# Altium integrated library TI Data Converters Analog to Digital Converter.IntLib: 2197 symbols (part 48 of 168)
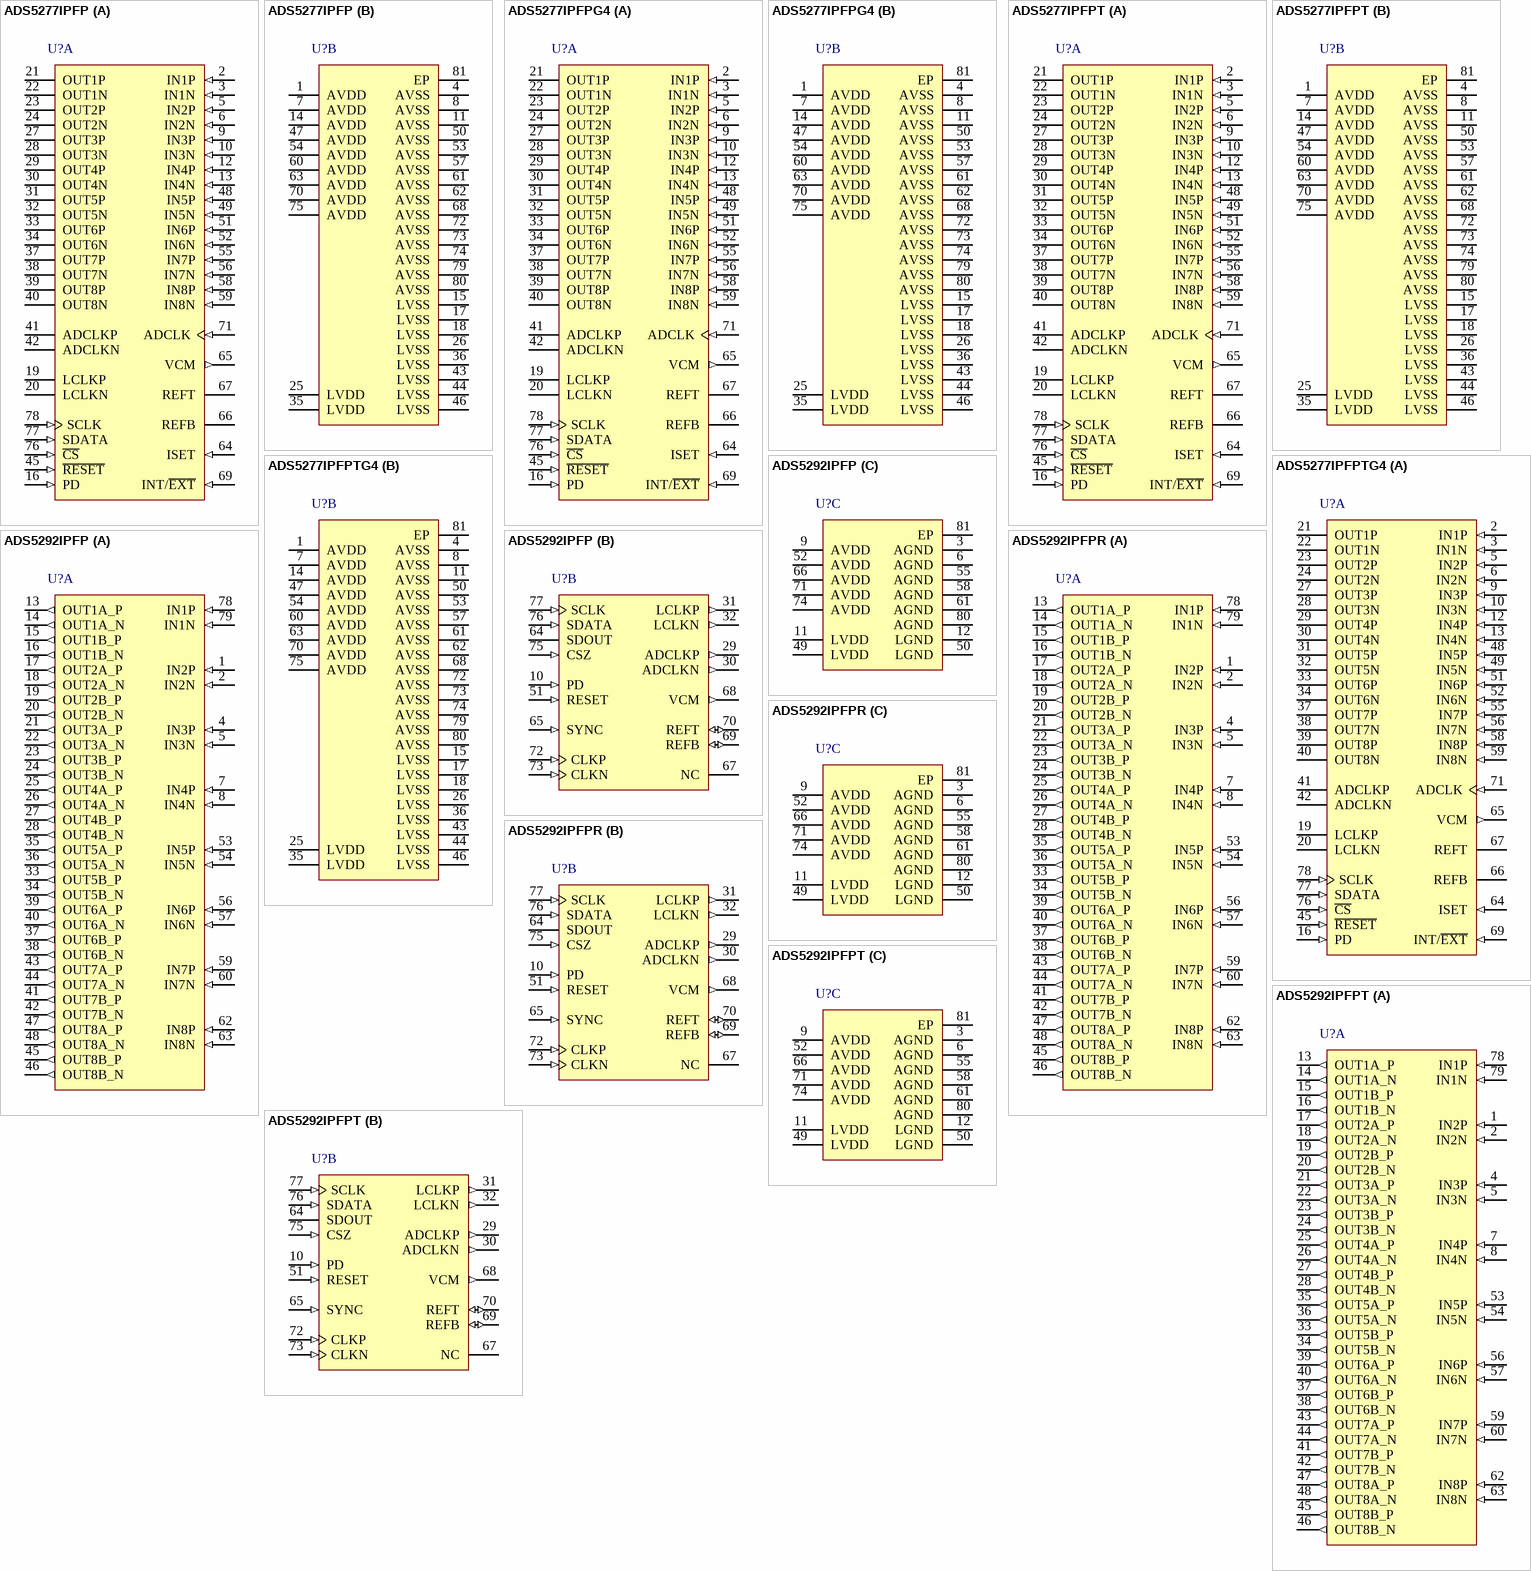
[diagram p173: symbols ADS5277IPFP to ADS5292IPFPT]

## ADS5292IPFPR
designator U?
Octal Channel 12-Bit, 80 MSPS High-SNR and Low-Power ADC, -40 to 85 degC, 80-pin QFP (PFP80), Green (RoHS & no Sb/Br); Manufacturer: Texas Instruments; PartNumber: ADS5292IPFPR; # Input Channels: 8; Analog Voltage AV/DD(Max)(V): 1.9; Analog Voltage AV/DD(Min)(V): 1.7; Architecture: Pipeline; ENOB(Bits): 11.3; INL(Max)(+/-LSB): 1; Interface: Parallel LVDS; Resolution(Bits): 12; Sample Rate (max)(SPS): 80M; SFDR(dB): 85; SINAD(dB): 69.8; SNR(dB): 71.5; SubFamily: High Speed ADC (>10MSPS); DatasheetVersion: SLAS788B; PackageVersion: 4146925/C, 07/2011; PackageReference: PFP80-6825X6825TP; PackageDescription: 80-Pin PowerPAD(TM) Plastic Quad Flatpack, Body 12 x 12 mm, Pitch 0.5 mm; Supplier 1: Mouser; Supplier Part Number 1: N/A; Digital Supply(Max)(V): 1.9; Digital Supply(Min)(V): 1.7; Eco-Plan: Green (RoHS & no Sb/Br); Mounting Technology: Surface Mount; Code_JEDEC: MS-026; ComponentLink1Description: Manufacturer URL; ComponentLink1URL: http://www.ti.com/; ComponentLink2Description: Datasheet; ComponentLink2URL: http://www.ti.com/general/docs/lit/getliterature.tsp?genericPartNumber=ADS5292&fileType=pdf; ComponentLink3Description: Package Specification; ComponentLink3URL: http://www.ti.com/litv/pdf/mpqf049b
footprint TI-PFP80-6825X6825TP_N (QFP, 80-Leads, Body 12x12mm, Pitch 0.5mm, Thermal Pad 7.5x7.5mm, IPC Medium Density)
footprint TI-PFP80-6825X6825TP_L (QFP, 80-Leads, Body 12x12mm, Pitch 0.5mm, Thermal Pad 7.5x7.5mm, IPC High Density)
footprint TI-PFP80-6825X6825TP_M (QFP, 80-Leads, Body 12x12mm, Pitch 0.5mm, Thermal Pad 7.5x7.5mm, IPC Low Density)
part A pins: 1 IN2P (in) "Differential input signal, Channel 2", 2 IN2N (in) "Differential input signal, Channel 2", 4 IN3P (in) "Differential input signal, Channel 3", 5 IN3N (in) "Differential input signal, Channel 3", 7 IN4P (in) "Differential input signal, Channel 4", 8 IN4N (in) "Differential input signal, Channel 4", 13 OUT1A_P (out) "Differential LVDS data output, wire 1, channel 1", 14 OUT1A_N (out) "Differential LVDS data output, wire 1, channel 1", 15 OUT1B_P (out) "Differential LVDS data output, wire 2, channel 1", 16 OUT1B_N (out) "Differential LVDS data output, wire 2, channel 1", 17 OUT2A_P (out) "Differential LVDS data output, wire 1, channel 2", 18 OUT2A_N (out) "Differential LVDS data output, wire 1, channel 2", 19 OUT2B_P (out) "Differential LVDS data output, wire 2, channel 2", 20 OUT2B_N (out) "Differential LVDS data output, wire 2, channel 2", 21 OUT3A_P (out) "Differential LVDS data output, wire 1, channel 3", 22 OUT3A_N (out) "Differential LVDS data output, wire 1, channel 3", 23 OUT3B_P (out) "Differential LVDS data output, wire 2, channel 3", 24 OUT3B_N (out) "Differential LVDS data output, wire 2, channel 3", 25 OUT4A_P (out) "Differential LVDS data output, wire 1, channel 4", 26 OUT4A_N (out) "Differential LVDS data output, wire 1, channel 4", 27 OUT4B_P (out) "Differential LVDS data output, wire 2, channel 4", 28 OUT4B_N (out) "Differential LVDS data output, wire 2, channel 4", 33 OUT5B_P (out) "Differential LVDS data output, wire 2, channel 5", 34 OUT5B_N (out) "Differential LVDS data output, wire 2, channel 5", 35 OUT5A_P (out) "Differential LVDS data output, wire 1, channel 5", 36 OUT5A_N (out) "Differential LVDS data output, wire 1, channel 5", 37 OUT6B_P (out) "Differential LVDS data output, wire 2, channel 6", 38 OUT6B_N (out) "Differential LVDS data output, wire 2, channel 6", 39 OUT6A_P (out) "Differential LVDS data output, wire 1, channel 6", 40 OUT6A_N (out) "Differential LVDS data output, wire 1, channel 6", 41 OUT7B_P (out) "Differential LVDS data output, wire 2, channel 7", 42 OUT7B_N (out) "Differential LVDS data output, wire 2, channel 7", 43 OUT7A_P (out) "Differential LVDS data output, wire 1, channel 7", 44 OUT7A_N (out) "Differential LVDS data output, wire 1, channel 7", 45 OUT8B_P (out) "Differential LVDS data output, wire 2, channel 8", 46 OUT8B_N (out) "Differential LVDS data output, wire 2, channel 8", 47 OUT8A_P (out) "Differential LVDS data output, wire 1, channel 8", 48 OUT8A_N (out) "Differential LVDS data output, wire 1, channel 8", 53 IN5P (in) "Differential input signal, Channel 5", 54 IN5N (in) "Differential input signal, Channel 5", 56 IN6P (in) "Differential input signal, Channel 6", 57 IN6N (in) "Differential input signal, Channel 6", 59 IN7P (in) "Differential input signal, Channel 7", 60 IN7N (in) "Differential input signal, Channel 7", 62 IN8P (in) "Differential input signal, Channel 8", 63 IN8N (in) "Differential input signal, Channel 8", 78 IN1P (in) "Differential input signal, Channel 1", 79 IN1N (in) "Differential input signal, Channel 1"
part B pins: 10 PD (in) "Power down control input. Active High. The pin has an internal 220-kO pulldown resistor.", 29 ADCLKP (out) "Differential LVDS frame clock (1X)", 30 ADCLKN (out) "Differential LVDS frame clock (1X)", 31 LCLKP (out) "Differential LVDS bit clock (7X)", 32 LCLKN (out) "Differential LVDS bit clock (7X)", 51 RESET (in) "Active HIGH RESET input. The pin has an internal 220-kO pulldown resistor.", 64 SDOUT (hiz) "Serial data readout. This pin is in the high-impedance state after reset. When the <READOUT> bit is set, the SDOUT pin becomes active. This is a CMOS digital output running from the AVDD supply.", 65 SYNC (in) "Input signal to synchronize channels and chips when used with reduced output data rates. If it is not used, add a =< 10 Kohm pull-down resistor.", 67 NC "No Connection. Must leave floated", 68 VCM (out) "Common-mode output pin, 0.95-V output", 69 REFB (io) "Negative reference input/ output", 70 REFT (io) "Positive reference input/ output", 72 CLKP (in) "Positive differential clock", 73 CLKN (in) "Negative differential clock -Tie CLKN to GND for single-ended clock", 75 CSZ (in) "Serial enable chip select - active low digital input", 76 SDATA (in) "Serial data input. The pin has an internal 220-kO pulldown resistor.", 77 SCLK (in) "Serial clock input. The pin has an internal 220-kohm pulldown resistor."
part C pins: 3 AGND (power) "Analog ground", 6 AGND (power) "Analog ground", 9 AVDD (power) "Analog supply pin, 1.8 V", 11 LVDD (power) "Digital and I/O power supply, 1.8 V", 12 LGND (power) "Digital ground", 49 LVDD (power) "Digital and I/O power supply, 1.8 V", 50 LGND (power) "Digital ground", 52 AVDD (power) "Analog supply pin, 1.8 V", 55 AGND (power) "Analog ground", 58 AGND (power) "Analog ground", 61 AGND (power) "Analog ground", 66 AVDD (power) "Analog supply pin, 1.8 V", 71 AVDD (power) "Analog supply pin, 1.8 V", 74 AVDD (power) "Analog supply pin, 1.8 V", 80 AGND (power) "Analog ground", 81 EP (power)

## ADS5292IPFPT
designator U?
Octal Channel 12-Bit, 80 MSPS High-SNR and Low-Power ADC, -40 to 85 degC, 80-pin QFP (PFP80), Green (RoHS & no Sb/Br); Manufacturer: Texas Instruments; PartNumber: ADS5292IPFPT; # Input Channels: 8; Analog Voltage AV/DD(Max)(V): 1.9; Analog Voltage AV/DD(Min)(V): 1.7; Architecture: Pipeline; ENOB(Bits): 11.3; INL(Max)(+/-LSB): 1; Interface: Parallel LVDS; Resolution(Bits): 12; Sample Rate (max)(SPS): 80M; SFDR(dB): 85; SINAD(dB): 69.8; SNR(dB): 71.5; SubFamily: High Speed ADC (>10MSPS); DatasheetVersion: SLAS788B; PackageVersion: 4146925/C, 07/2011; PackageReference: PFP80-6825X6825TP; PackageDescription: 80-Pin PowerPAD(TM) Plastic Quad Flatpack, Body 12 x 12 mm, Pitch 0.5 mm; Supplier 1: Mouser; Supplier Part Number 1: N/A; Digital Supply(Max)(V): 1.9; Digital Supply(Min)(V): 1.7; Eco-Plan: Green (RoHS & no Sb/Br); Mounting Technology: Surface Mount; Code_JEDEC: MS-026; ComponentLink1Description: Manufacturer URL; ComponentLink1URL: http://www.ti.com/; ComponentLink2Description: Datasheet; ComponentLink2URL: http://www.ti.com/general/docs/lit/getliterature.tsp?genericPartNumber=ADS5292&fileType=pdf; ComponentLink3Description: Package Specification; ComponentLink3URL: http://www.ti.com/litv/pdf/mpqf049b
footprint TI-PFP80-6825X6825TP_N (QFP, 80-Leads, Body 12x12mm, Pitch 0.5mm, Thermal Pad 7.5x7.5mm, IPC Medium Density)
footprint TI-PFP80-6825X6825TP_L (QFP, 80-Leads, Body 12x12mm, Pitch 0.5mm, Thermal Pad 7.5x7.5mm, IPC High Density)
footprint TI-PFP80-6825X6825TP_M (QFP, 80-Leads, Body 12x12mm, Pitch 0.5mm, Thermal Pad 7.5x7.5mm, IPC Low Density)
part A pins: 1 IN2P (in) "Differential input signal, Channel 2", 2 IN2N (in) "Differential input signal, Channel 2", 4 IN3P (in) "Differential input signal, Channel 3", 5 IN3N (in) "Differential input signal, Channel 3", 7 IN4P (in) "Differential input signal, Channel 4", 8 IN4N (in) "Differential input signal, Channel 4", 13 OUT1A_P (out) "Differential LVDS data output, wire 1, channel 1", 14 OUT1A_N (out) "Differential LVDS data output, wire 1, channel 1", 15 OUT1B_P (out) "Differential LVDS data output, wire 2, channel 1", 16 OUT1B_N (out) "Differential LVDS data output, wire 2, channel 1", 17 OUT2A_P (out) "Differential LVDS data output, wire 1, channel 2", 18 OUT2A_N (out) "Differential LVDS data output, wire 1, channel 2", 19 OUT2B_P (out) "Differential LVDS data output, wire 2, channel 2", 20 OUT2B_N (out) "Differential LVDS data output, wire 2, channel 2", 21 OUT3A_P (out) "Differential LVDS data output, wire 1, channel 3", 22 OUT3A_N (out) "Differential LVDS data output, wire 1, channel 3", 23 OUT3B_P (out) "Differential LVDS data output, wire 2, channel 3", 24 OUT3B_N (out) "Differential LVDS data output, wire 2, channel 3", 25 OUT4A_P (out) "Differential LVDS data output, wire 1, channel 4", 26 OUT4A_N (out) "Differential LVDS data output, wire 1, channel 4", 27 OUT4B_P (out) "Differential LVDS data output, wire 2, channel 4", 28 OUT4B_N (out) "Differential LVDS data output, wire 2, channel 4", 33 OUT5B_P (out) "Differential LVDS data output, wire 2, channel 5", 34 OUT5B_N (out) "Differential LVDS data output, wire 2, channel 5", 35 OUT5A_P (out) "Differential LVDS data output, wire 1, channel 5", 36 OUT5A_N (out) "Differential LVDS data output, wire 1, channel 5", 37 OUT6B_P (out) "Differential LVDS data output, wire 2, channel 6", 38 OUT6B_N (out) "Differential LVDS data output, wire 2, channel 6", 39 OUT6A_P (out) "Differential LVDS data output, wire 1, channel 6", 40 OUT6A_N (out) "Differential LVDS data output, wire 1, channel 6", 41 OUT7B_P (out) "Differential LVDS data output, wire 2, channel 7", 42 OUT7B_N (out) "Differential LVDS data output, wire 2, channel 7", 43 OUT7A_P (out) "Differential LVDS data output, wire 1, channel 7", 44 OUT7A_N (out) "Differential LVDS data output, wire 1, channel 7", 45 OUT8B_P (out) "Differential LVDS data output, wire 2, channel 8", 46 OUT8B_N (out) "Differential LVDS data output, wire 2, channel 8", 47 OUT8A_P (out) "Differential LVDS data output, wire 1, channel 8", 48 OUT8A_N (out) "Differential LVDS data output, wire 1, channel 8", 53 IN5P (in) "Differential input signal, Channel 5", 54 IN5N (in) "Differential input signal, Channel 5", 56 IN6P (in) "Differential input signal, Channel 6", 57 IN6N (in) "Differential input signal, Channel 6", 59 IN7P (in) "Differential input signal, Channel 7", 60 IN7N (in) "Differential input signal, Channel 7", 62 IN8P (in) "Differential input signal, Channel 8", 63 IN8N (in) "Differential input signal, Channel 8", 78 IN1P (in) "Differential input signal, Channel 1", 79 IN1N (in) "Differential input signal, Channel 1"
part B pins: 10 PD (in) "Power down control input. Active High. The pin has an internal 220-kO pulldown resistor.", 29 ADCLKP (out) "Differential LVDS frame clock (1X)", 30 ADCLKN (out) "Differential LVDS frame clock (1X)", 31 LCLKP (out) "Differential LVDS bit clock (7X)", 32 LCLKN (out) "Differential LVDS bit clock (7X)", 51 RESET (in) "Active HIGH RESET input. The pin has an internal 220-kO pulldown resistor.", 64 SDOUT (hiz) "Serial data readout. This pin is in the high-impedance state after reset. When the <READOUT> bit is set, the SDOUT pin becomes active. This is a CMOS digital output running from the AVDD supply.", 65 SYNC (in) "Input signal to synchronize channels and chips when used with reduced output data rates. If it is not used, add a =< 10 Kohm pull-down resistor.", 67 NC "No Connection. Must leave floated", 68 VCM (out) "Common-mode output pin, 0.95-V output", 69 REFB (io) "Negative reference input/ output", 70 REFT (io) "Positive reference input/ output", 72 CLKP (in) "Positive differential clock", 73 CLKN (in) "Negative differential clock -Tie CLKN to GND for single-ended clock", 75 CSZ (in) "Serial enable chip select - active low digital input", 76 SDATA (in) "Serial data input. The pin has an internal 220-kO pulldown resistor.", 77 SCLK (in) "Serial clock input. The pin has an internal 220-kohm pulldown resistor."
part C pins: 3 AGND (power) "Analog ground", 6 AGND (power) "Analog ground", 9 AVDD (power) "Analog supply pin, 1.8 V", 11 LVDD (power) "Digital and I/O power supply, 1.8 V", 12 LGND (power) "Digital ground", 49 LVDD (power) "Digital and I/O power supply, 1.8 V", 50 LGND (power) "Digital ground", 52 AVDD (power) "Analog supply pin, 1.8 V", 55 AGND (power) "Analog ground", 58 AGND (power) "Analog ground", 61 AGND (power) "Analog ground", 66 AVDD (power) "Analog supply pin, 1.8 V", 71 AVDD (power) "Analog supply pin, 1.8 V", 74 AVDD (power) "Analog supply pin, 1.8 V", 80 AGND (power) "Analog ground", 81 EP (power)

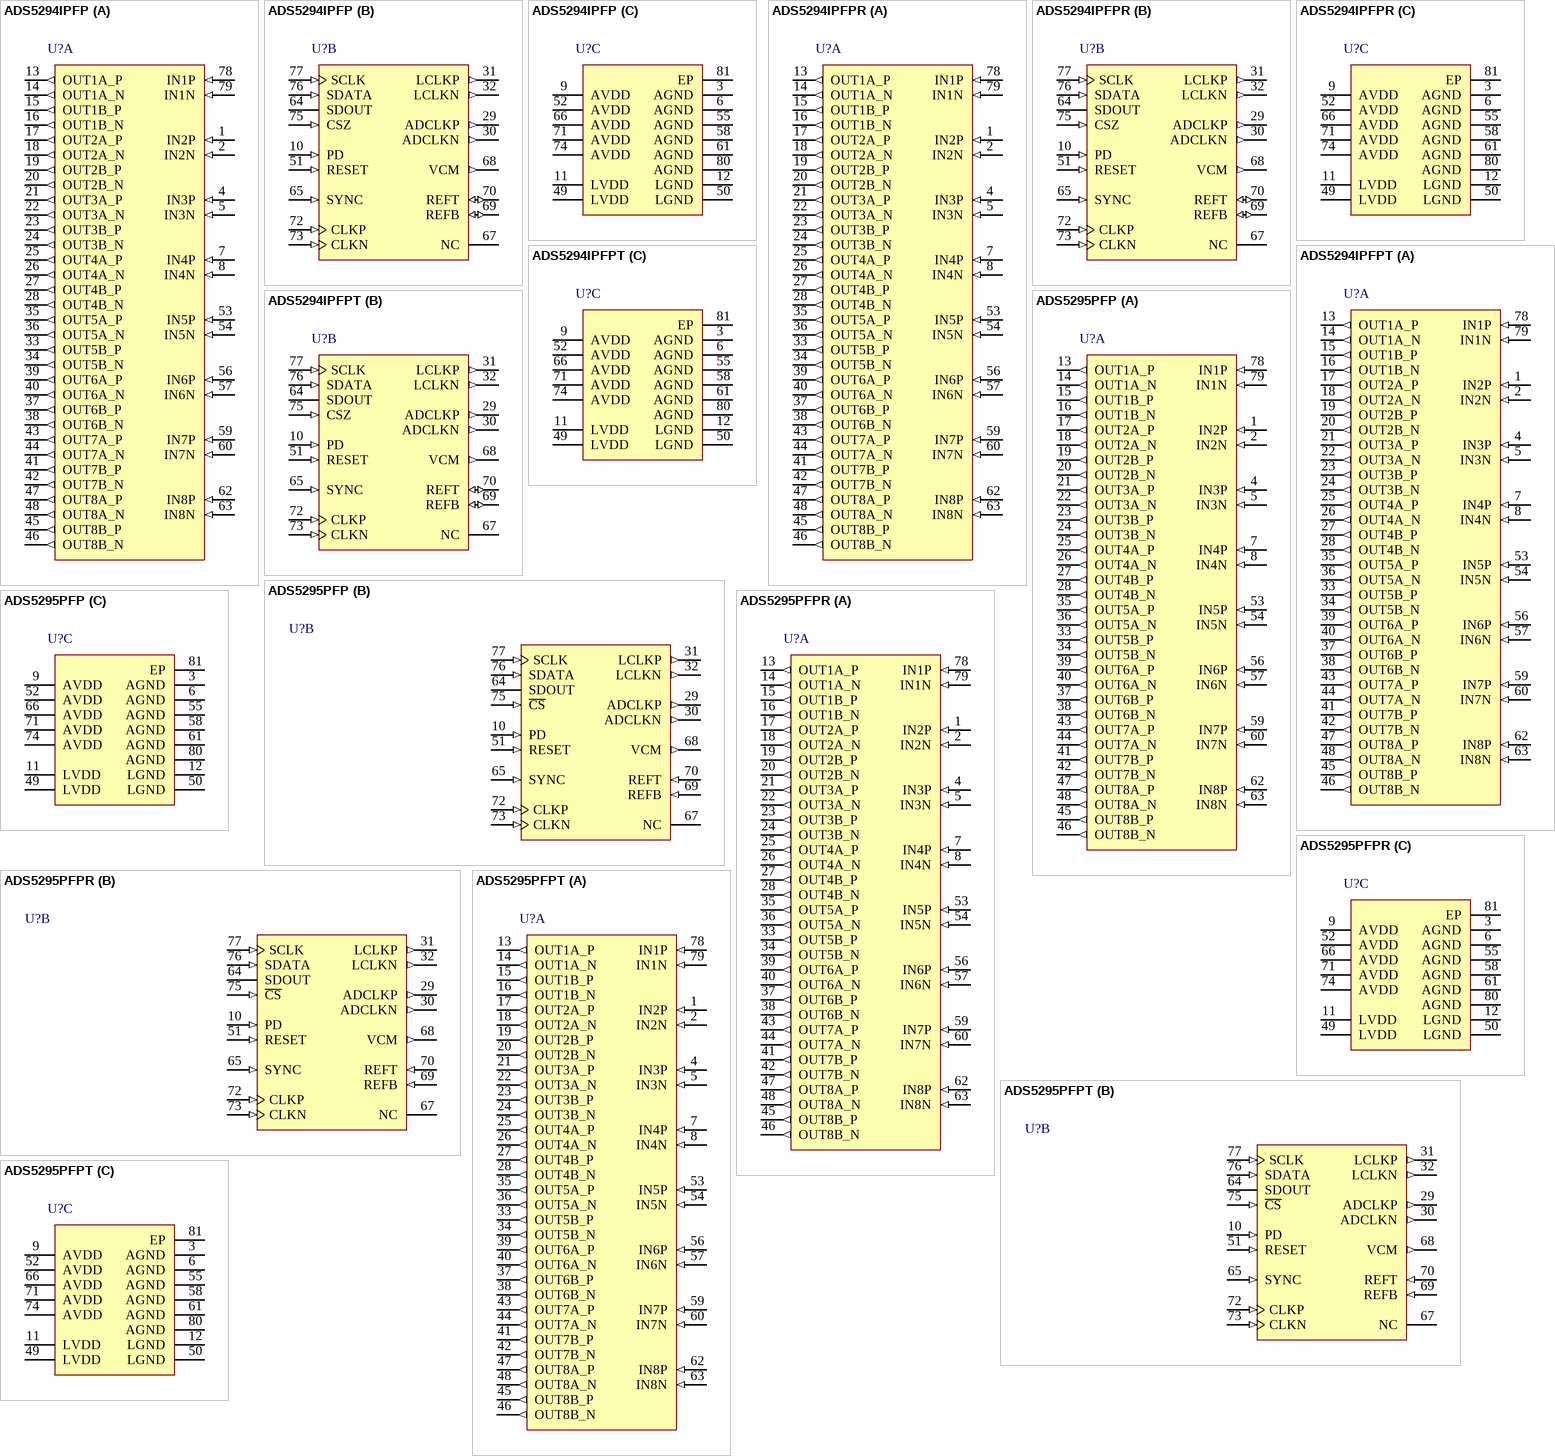
[diagram p44: symbols ADS5294IPFP to ADS5295PFPT]

## ADS5294IPFP
designator U?
Octal Channel 12-Bit, 80 MSPS High-SNR and Low-Power ADC, -40 to 85 degC, 80-pin QFP (PFP80), Green (RoHS & no Sb/Br); Manufacturer: Texas Instruments; PartNumber: ADS5294IPFP; # Input Channels: 8; Analog Voltage AV/DD(Max)(V): 1.9; Analog Voltage AV/DD(Min)(V): 1.7; Architecture: Pipeline; ENOB(Bits): 12.2; INL(Max)(+/-LSB): 5.5; Interface: Parallel LVDS; Resolution(Bits): 14; Sample Rate (max)(SPS): 80M; SFDR(dB): 84; SINAD(dB): 74.8; SNR(dB): 75.5; SubFamily: High Speed ADC (>10MSPS); DatasheetVersion: SLAS776B; PackageVersion: 4146925/C, 07/2011; PackageReference: PFP80-6825X6825TP; PackageDescription: 80-Pin PowerPAD(TM) Plastic Quad Flatpack, Body 12 x 12 mm, Pitch 0.5 mm; Digital Supply(Max)(V): 1.9; Digital Supply(Min)(V): 1.7; Eco-Plan: Green (RoHS & no Sb/Br); Mounting Technology: Surface Mount; Code_JEDEC: MS-026; ComponentLink1Description: Manufacturer URL; ComponentLink1URL: http://www.ti.com/; ComponentLink2Description: Datasheet; ComponentLink2URL: http://www.ti.com/general/docs/lit/getliterature.tsp?genericPartNumber=ADS5294&fileType=pdf; ComponentLink3Description: Package Specification; ComponentLink3URL: http://www.ti.com/litv/pdf/mpqf049b
footprint TI-PFP80-6825X6825TP_N (QFP, 80-Leads, Body 12x12mm, Pitch 0.5mm, Thermal Pad 7.5x7.5mm, IPC Medium Density)
footprint TI-PFP80-6825X6825TP_L (QFP, 80-Leads, Body 12x12mm, Pitch 0.5mm, Thermal Pad 7.5x7.5mm, IPC High Density)
footprint TI-PFP80-6825X6825TP_M (QFP, 80-Leads, Body 12x12mm, Pitch 0.5mm, Thermal Pad 7.5x7.5mm, IPC Low Density)
part A pins: 1 IN2P (in) "Differential input signal, Channel 2", 2 IN2N (in) "Differential input signal, Channel 2", 4 IN3P (in) "Differential input signal, Channel 3", 5 IN3N (in) "Differential input signal, Channel 3", 7 IN4P (in) "Differential input signal, Channel 4", 8 IN4N (in) "Differential input signal, Channel 4", 13 OUT1A_P (out) "Differential LVDS data output, wire 1, channel 1", 14 OUT1A_N (out) "Differential LVDS data output, wire 1, channel 1", 15 OUT1B_P (out) "Differential LVDS data output, wire 2, channel 1", 16 OUT1B_N (out) "Differential LVDS data output, wire 2, channel 1", 17 OUT2A_P (out) "Differential LVDS data output, wire 1, channel 2", 18 OUT2A_N (out) "Differential LVDS data output, wire 1, channel 2", 19 OUT2B_P (out) "Differential LVDS data output, wire 2, channel 2", 20 OUT2B_N (out) "Differential LVDS data output, wire 2, channel 2", 21 OUT3A_P (out) "Differential LVDS data output, wire 1, channel 3", 22 OUT3A_N (out) "Differential LVDS data output, wire 1, channel 3", 23 OUT3B_P (out) "Differential LVDS data output, wire 2, channel 3", 24 OUT3B_N (out) "Differential LVDS data output, wire 2, channel 3", 25 OUT4A_P (out) "Differential LVDS data output, wire 1, channel 4", 26 OUT4A_N (out) "Differential LVDS data output, wire 1, channel 4", 27 OUT4B_P (out) "Differential LVDS data output, wire 2, channel 4", 28 OUT4B_N (out) "Differential LVDS data output, wire 2, channel 4", 33 OUT5B_P (out) "Differential LVDS data output, wire 2, channel 5", 34 OUT5B_N (out) "Differential LVDS data output, wire 2, channel 5", 35 OUT5A_P (out) "Differential LVDS data output, wire 1, channel 5", 36 OUT5A_N (out) "Differential LVDS data output, wire 1, channel 5", 37 OUT6B_P (out) "Differential LVDS data output, wire 2, channel 6", 38 OUT6B_N (out) "Differential LVDS data output, wire 2, channel 6", 39 OUT6A_P (out) "Differential LVDS data output, wire 1, channel 6", 40 OUT6A_N (out) "Differential LVDS data output, wire 1, channel 6", 41 OUT7B_P (out) "Differential LVDS data output, wire 2, channel 7", 42 OUT7B_N (out) "Differential LVDS data output, wire 2, channel 7", 43 OUT7A_P (out) "Differential LVDS data output, wire 1, channel 7", 44 OUT7A_N (out) "Differential LVDS data output, wire 1, channel 7", 45 OUT8B_P (out) "Differential LVDS data output, wire 2, channel 8", 46 OUT8B_N (out) "Differential LVDS data output, wire 2, channel 8", 47 OUT8A_P (out) "Differential LVDS data output, wire 1, channel 8", 48 OUT8A_N (out) "Differential LVDS data output, wire 1, channel 8", 53 IN5P (in) "Differential input signal, Channel 5", 54 IN5N (in) "Differential input signal, Channel 5", 56 IN6P (in) "Differential input signal, Channel 6", 57 IN6N (in) "Differential input signal, Channel 6", 59 IN7P (in) "Differential input signal, Channel 7", 60 IN7N (in) "Differential input signal, Channel 7", 62 IN8P (in) "Differential input signal, Channel 8", 63 IN8N (in) "Differential input signal, Channel 8", 78 IN1P (in) "Differential input signal, Channel 1", 79 IN1N (in) "Differential input signal, Channel 1"
part B pins: 10 PD (in) "Power down control input. Active High. The pin has an internal 220-kO pulldown resistor.", 29 ADCLKP (out) "Differential LVDS frame clock (1X)", 30 ADCLKN (out) "Differential LVDS frame clock (1X)", 31 LCLKP (out) "Differential LVDS bit clock (7X)", 32 LCLKN (out) "Differential LVDS bit clock (7X)", 51 RESET (in) "Active HIGH RESET input. The pin has an internal 220-kO pulldown resistor.", 64 SDOUT (hiz) "Serial data readout. This pin is in the high-impedance state after reset. When the <READOUT> bit is set, the SDOUT pin becomes active. This is a CMOS digital output running from the AVDD supply.", 65 SYNC (in) "Input signal to synchronize channels and chips when used with reduced output data rates. If it is not used, add a =< 10 Kohm pull-down resistor.", 67 NC "No Connection. Must leave floated", 68 VCM (out) "Common-mode output pin, 0.95-V output", 69 REFB (io) "Negative reference input/ output", 70 REFT (io) "Positive reference input/ output", 72 CLKP (in) "Positive differential clock", 73 CLKN (in) "Negative differential clock -Tie CLKN to GND for single-ended clock", 75 CSZ (in) "Serial enable chip select - active low digital input", 76 SDATA (in) "Serial data input. The pin has an internal 220-kO pulldown resistor.", 77 SCLK (in) "Serial clock input. The pin has an internal 220-kohm pulldown resistor."
part C pins: 3 AGND (power) "Analog ground", 6 AGND (power) "Analog ground", 9 AVDD (power) "Analog supply pin, 1.8 V", 11 LVDD (power) "Digital and I/O power supply, 1.8 V", 12 LGND (power) "Digital ground", 49 LVDD (power) "Digital and I/O power supply, 1.8 V", 50 LGND (power) "Digital ground", 52 AVDD (power) "Analog supply pin, 1.8 V", 55 AGND (power) "Analog ground", 58 AGND (power) "Analog ground", 61 AGND (power) "Analog ground", 66 AVDD (power) "Analog supply pin, 1.8 V", 71 AVDD (power) "Analog supply pin, 1.8 V", 74 AVDD (power) "Analog supply pin, 1.8 V", 80 AGND (power) "Analog ground", 81 EP (power)

## ADS5294IPFPR
designator U?
Octal Channel 12-Bit, 80 MSPS High-SNR and Low-Power ADC, -40 to 85 degC, 80-pin QFP (PFP80), Green (RoHS & no Sb/Br); Manufacturer: Texas Instruments; PartNumber: ADS5294IPFPR; # Input Channels: 8; Analog Voltage AV/DD(Max)(V): 1.9; Analog Voltage AV/DD(Min)(V): 1.7; Architecture: Pipeline; ENOB(Bits): 12.2; INL(Max)(+/-LSB): 5.5; Interface: Parallel LVDS; Resolution(Bits): 14; Sample Rate (max)(SPS): 80M; SFDR(dB): 84; SINAD(dB): 74.8; SNR(dB): 75.5; SubFamily: High Speed ADC (>10MSPS); DatasheetVersion: SLAS776B; PackageVersion: 4146925/C, 07/2011; PackageReference: PFP80-6825X6825TP; PackageDescription: 80-Pin PowerPAD(TM) Plastic Quad Flatpack, Body 12 x 12 mm, Pitch 0.5 mm; Supplier 1: Digi-Key; Supplier Part Number 1: 296-2172-5-ND; Supplier 2: Farnell; Supplier Part Number 2: 1459312; Supplier 3: Mouser; Supplier Part Number 3: 595-THS10064CDA; Digital Supply(Max)(V): 1.9; Digital Supply(Min)(V): 1.7; Eco-Plan: Green (RoHS & no Sb/Br); Mounting Technology: Surface Mount; Code_JEDEC: MS-026; ComponentLink1Description: Manufacturer URL; ComponentLink1URL: http://www.ti.com/; ComponentLink2Description: Datasheet; ComponentLink2URL: http://www.ti.com/general/docs/lit/getliterature.tsp?genericPartNumber=ADS5294&fileType=pdf; ComponentLink3Description: Package Specification; ComponentLink3URL: http://www.ti.com/litv/pdf/mpqf049b
footprint TI-PFP80-6825X6825TP_N (QFP, 80-Leads, Body 12x12mm, Pitch 0.5mm, Thermal Pad 7.5x7.5mm, IPC Medium Density)
footprint TI-PFP80-6825X6825TP_L (QFP, 80-Leads, Body 12x12mm, Pitch 0.5mm, Thermal Pad 7.5x7.5mm, IPC High Density)
footprint TI-PFP80-6825X6825TP_M (QFP, 80-Leads, Body 12x12mm, Pitch 0.5mm, Thermal Pad 7.5x7.5mm, IPC Low Density)
part A pins: 1 IN2P (in) "Differential input signal, Channel 2", 2 IN2N (in) "Differential input signal, Channel 2", 4 IN3P (in) "Differential input signal, Channel 3", 5 IN3N (in) "Differential input signal, Channel 3", 7 IN4P (in) "Differential input signal, Channel 4", 8 IN4N (in) "Differential input signal, Channel 4", 13 OUT1A_P (out) "Differential LVDS data output, wire 1, channel 1", 14 OUT1A_N (out) "Differential LVDS data output, wire 1, channel 1", 15 OUT1B_P (out) "Differential LVDS data output, wire 2, channel 1", 16 OUT1B_N (out) "Differential LVDS data output, wire 2, channel 1", 17 OUT2A_P (out) "Differential LVDS data output, wire 1, channel 2", 18 OUT2A_N (out) "Differential LVDS data output, wire 1, channel 2", 19 OUT2B_P (out) "Differential LVDS data output, wire 2, channel 2", 20 OUT2B_N (out) "Differential LVDS data output, wire 2, channel 2", 21 OUT3A_P (out) "Differential LVDS data output, wire 1, channel 3", 22 OUT3A_N (out) "Differential LVDS data output, wire 1, channel 3", 23 OUT3B_P (out) "Differential LVDS data output, wire 2, channel 3", 24 OUT3B_N (out) "Differential LVDS data output, wire 2, channel 3", 25 OUT4A_P (out) "Differential LVDS data output, wire 1, channel 4", 26 OUT4A_N (out) "Differential LVDS data output, wire 1, channel 4", 27 OUT4B_P (out) "Differential LVDS data output, wire 2, channel 4", 28 OUT4B_N (out) "Differential LVDS data output, wire 2, channel 4", 33 OUT5B_P (out) "Differential LVDS data output, wire 2, channel 5", 34 OUT5B_N (out) "Differential LVDS data output, wire 2, channel 5", 35 OUT5A_P (out) "Differential LVDS data output, wire 1, channel 5", 36 OUT5A_N (out) "Differential LVDS data output, wire 1, channel 5", 37 OUT6B_P (out) "Differential LVDS data output, wire 2, channel 6", 38 OUT6B_N (out) "Differential LVDS data output, wire 2, channel 6", 39 OUT6A_P (out) "Differential LVDS data output, wire 1, channel 6", 40 OUT6A_N (out) "Differential LVDS data output, wire 1, channel 6", 41 OUT7B_P (out) "Differential LVDS data output, wire 2, channel 7", 42 OUT7B_N (out) "Differential LVDS data output, wire 2, channel 7", 43 OUT7A_P (out) "Differential LVDS data output, wire 1, channel 7", 44 OUT7A_N (out) "Differential LVDS data output, wire 1, channel 7", 45 OUT8B_P (out) "Differential LVDS data output, wire 2, channel 8", 46 OUT8B_N (out) "Differential LVDS data output, wire 2, channel 8", 47 OUT8A_P (out) "Differential LVDS data output, wire 1, channel 8", 48 OUT8A_N (out) "Differential LVDS data output, wire 1, channel 8", 53 IN5P (in) "Differential input signal, Channel 5", 54 IN5N (in) "Differential input signal, Channel 5", 56 IN6P (in) "Differential input signal, Channel 6", 57 IN6N (in) "Differential input signal, Channel 6", 59 IN7P (in) "Differential input signal, Channel 7", 60 IN7N (in) "Differential input signal, Channel 7", 62 IN8P (in) "Differential input signal, Channel 8", 63 IN8N (in) "Differential input signal, Channel 8", 78 IN1P (in) "Differential input signal, Channel 1", 79 IN1N (in) "Differential input signal, Channel 1"
part B pins: 10 PD (in) "Power down control input. Active High. The pin has an internal 220-kO pulldown resistor.", 29 ADCLKP (out) "Differential LVDS frame clock (1X)", 30 ADCLKN (out) "Differential LVDS frame clock (1X)", 31 LCLKP (out) "Differential LVDS bit clock (7X)", 32 LCLKN (out) "Differential LVDS bit clock (7X)", 51 RESET (in) "Active HIGH RESET input. The pin has an internal 220-kO pulldown resistor.", 64 SDOUT (hiz) "Serial data readout. This pin is in the high-impedance state after reset. When the <READOUT> bit is set, the SDOUT pin becomes active. This is a CMOS digital output running from the AVDD supply.", 65 SYNC (in) "Input signal to synchronize channels and chips when used with reduced output data rates. If it is not used, add a =< 10 Kohm pull-down resistor.", 67 NC "No Connection. Must leave floated", 68 VCM (out) "Common-mode output pin, 0.95-V output", 69 REFB (io) "Negative reference input/ output", 70 REFT (io) "Positive reference input/ output", 72 CLKP (in) "Positive differential clock", 73 CLKN (in) "Negative differential clock -Tie CLKN to GND for single-ended clock", 75 CSZ (in) "Serial enable chip select - active low digital input", 76 SDATA (in) "Serial data input. The pin has an internal 220-kO pulldown resistor.", 77 SCLK (in) "Serial clock input. The pin has an internal 220-kohm pulldown resistor."
part C pins: 3 AGND (power) "Analog ground", 6 AGND (power) "Analog ground", 9 AVDD (power) "Analog supply pin, 1.8 V", 11 LVDD (power) "Digital and I/O power supply, 1.8 V", 12 LGND (power) "Digital ground", 49 LVDD (power) "Digital and I/O power supply, 1.8 V", 50 LGND (power) "Digital ground", 52 AVDD (power) "Analog supply pin, 1.8 V", 55 AGND (power) "Analog ground", 58 AGND (power) "Analog ground", 61 AGND (power) "Analog ground", 66 AVDD (power) "Analog supply pin, 1.8 V", 71 AVDD (power) "Analog supply pin, 1.8 V", 74 AVDD (power) "Analog supply pin, 1.8 V", 80 AGND (power) "Analog ground", 81 EP (power)

## ADS5294IPFPT
designator U?
Octal Channel 12-Bit, 80 MSPS High-SNR and Low-Power ADC, -40 to 85 degC, 80-pin QFP (PFP80), Green (RoHS & no Sb/Br); Manufacturer: Texas Instruments; PartNumber: ADS5294IPFPT; # Input Channels: 8; Analog Voltage AV/DD(Max)(V): 1.9; Analog Voltage AV/DD(Min)(V): 1.7; Architecture: Pipeline; ENOB(Bits): 12.2; INL(Max)(+/-LSB): 5.5; Interface: Parallel LVDS; Resolution(Bits): 14; Sample Rate (max)(SPS): 80M; SFDR(dB): 84; SINAD(dB): 74.8; SNR(dB): 75.5; SubFamily: High Speed ADC (>10MSPS); DatasheetVersion: SLAS776B; PackageVersion: 4146925/C, 07/2011; PackageReference: PFP80-6825X6825TP; PackageDescription: 80-Pin PowerPAD(TM) Plastic Quad Flatpack, Body 12 x 12 mm, Pitch 0.5 mm; Supplier 1: Digi-Key; Supplier Part Number 1: THS10064CDAG4-ND; Supplier 2: Mouser; Supplier Part Number 2: 595-THS10064CDAG4; Digital Supply(Max)(V): 1.9; Digital Supply(Min)(V): 1.7; Eco-Plan: Green (RoHS & no Sb/Br); Mounting Technology: Surface Mount; Code_JEDEC: MS-026; ComponentLink1Description: Manufacturer URL; ComponentLink1URL: http://www.ti.com/; ComponentLink2Description: Datasheet; ComponentLink2URL: http://www.ti.com/general/docs/lit/getliterature.tsp?genericPartNumber=ADS5294&fileType=pdf; ComponentLink3Description: Package Specification; ComponentLink3URL: http://www.ti.com/litv/pdf/mpqf049b
footprint TI-PFP80-6825X6825TP_N (QFP, 80-Leads, Body 12x12mm, Pitch 0.5mm, Thermal Pad 7.5x7.5mm, IPC Medium Density)
footprint TI-PFP80-6825X6825TP_L (QFP, 80-Leads, Body 12x12mm, Pitch 0.5mm, Thermal Pad 7.5x7.5mm, IPC High Density)
footprint TI-PFP80-6825X6825TP_M (QFP, 80-Leads, Body 12x12mm, Pitch 0.5mm, Thermal Pad 7.5x7.5mm, IPC Low Density)
part A pins: 1 IN2P (in) "Differential input signal, Channel 2", 2 IN2N (in) "Differential input signal, Channel 2", 4 IN3P (in) "Differential input signal, Channel 3", 5 IN3N (in) "Differential input signal, Channel 3", 7 IN4P (in) "Differential input signal, Channel 4", 8 IN4N (in) "Differential input signal, Channel 4", 13 OUT1A_P (out) "Differential LVDS data output, wire 1, channel 1", 14 OUT1A_N (out) "Differential LVDS data output, wire 1, channel 1", 15 OUT1B_P (out) "Differential LVDS data output, wire 2, channel 1", 16 OUT1B_N (out) "Differential LVDS data output, wire 2, channel 1", 17 OUT2A_P (out) "Differential LVDS data output, wire 1, channel 2", 18 OUT2A_N (out) "Differential LVDS data output, wire 1, channel 2", 19 OUT2B_P (out) "Differential LVDS data output, wire 2, channel 2", 20 OUT2B_N (out) "Differential LVDS data output, wire 2, channel 2", 21 OUT3A_P (out) "Differential LVDS data output, wire 1, channel 3", 22 OUT3A_N (out) "Differential LVDS data output, wire 1, channel 3", 23 OUT3B_P (out) "Differential LVDS data output, wire 2, channel 3", 24 OUT3B_N (out) "Differential LVDS data output, wire 2, channel 3", 25 OUT4A_P (out) "Differential LVDS data output, wire 1, channel 4", 26 OUT4A_N (out) "Differential LVDS data output, wire 1, channel 4", 27 OUT4B_P (out) "Differential LVDS data output, wire 2, channel 4", 28 OUT4B_N (out) "Differential LVDS data output, wire 2, channel 4", 33 OUT5B_P (out) "Differential LVDS data output, wire 2, channel 5", 34 OUT5B_N (out) "Differential LVDS data output, wire 2, channel 5", 35 OUT5A_P (out) "Differential LVDS data output, wire 1, channel 5", 36 OUT5A_N (out) "Differential LVDS data output, wire 1, channel 5", 37 OUT6B_P (out) "Differential LVDS data output, wire 2, channel 6", 38 OUT6B_N (out) "Differential LVDS data output, wire 2, channel 6", 39 OUT6A_P (out) "Differential LVDS data output, wire 1, channel 6", 40 OUT6A_N (out) "Differential LVDS data output, wire 1, channel 6", 41 OUT7B_P (out) "Differential LVDS data output, wire 2, channel 7", 42 OUT7B_N (out) "Differential LVDS data output, wire 2, channel 7", 43 OUT7A_P (out) "Differential LVDS data output, wire 1, channel 7", 44 OUT7A_N (out) "Differential LVDS data output, wire 1, channel 7", 45 OUT8B_P (out) "Differential LVDS data output, wire 2, channel 8", 46 OUT8B_N (out) "Differential LVDS data output, wire 2, channel 8", 47 OUT8A_P (out) "Differential LVDS data output, wire 1, channel 8", 48 OUT8A_N (out) "Differential LVDS data output, wire 1, channel 8", 53 IN5P (in) "Differential input signal, Channel 5", 54 IN5N (in) "Differential input signal, Channel 5", 56 IN6P (in) "Differential input signal, Channel 6", 57 IN6N (in) "Differential input signal, Channel 6", 59 IN7P (in) "Differential input signal, Channel 7", 60 IN7N (in) "Differential input signal, Channel 7", 62 IN8P (in) "Differential input signal, Channel 8", 63 IN8N (in) "Differential input signal, Channel 8", 78 IN1P (in) "Differential input signal, Channel 1", 79 IN1N (in) "Differential input signal, Channel 1"
part B pins: 10 PD (in) "Power down control input. Active High. The pin has an internal 220-kO pulldown resistor.", 29 ADCLKP (out) "Differential LVDS frame clock (1X)", 30 ADCLKN (out) "Differential LVDS frame clock (1X)", 31 LCLKP (out) "Differential LVDS bit clock (7X)", 32 LCLKN (out) "Differential LVDS bit clock (7X)", 51 RESET (in) "Active HIGH RESET input. The pin has an internal 220-kO pulldown resistor.", 64 SDOUT (hiz) "Serial data readout. This pin is in the high-impedance state after reset. When the <READOUT> bit is set, the SDOUT pin becomes active. This is a CMOS digital output running from the AVDD supply.", 65 SYNC (in) "Input signal to synchronize channels and chips when used with reduced output data rates. If it is not used, add a =< 10 Kohm pull-down resistor.", 67 NC "No Connection. Must leave floated", 68 VCM (out) "Common-mode output pin, 0.95-V output", 69 REFB (io) "Negative reference input/ output", 70 REFT (io) "Positive reference input/ output", 72 CLKP (in) "Positive differential clock", 73 CLKN (in) "Negative differential clock -Tie CLKN to GND for single-ended clock", 75 CSZ (in) "Serial enable chip select - active low digital input", 76 SDATA (in) "Serial data input. The pin has an internal 220-kO pulldown resistor.", 77 SCLK (in) "Serial clock input. The pin has an internal 220-kohm pulldown resistor."
part C pins: 3 AGND (power) "Analog ground", 6 AGND (power) "Analog ground", 9 AVDD (power) "Analog supply pin, 1.8 V", 11 LVDD (power) "Digital and I/O power supply, 1.8 V", 12 LGND (power) "Digital ground", 49 LVDD (power) "Digital and I/O power supply, 1.8 V", 50 LGND (power) "Digital ground", 52 AVDD (power) "Analog supply pin, 1.8 V", 55 AGND (power) "Analog ground", 58 AGND (power) "Analog ground", 61 AGND (power) "Analog ground", 66 AVDD (power) "Analog supply pin, 1.8 V", 71 AVDD (power) "Analog supply pin, 1.8 V", 74 AVDD (power) "Analog supply pin, 1.8 V", 80 AGND (power) "Analog ground", 81 EP (power)

## ADS5295PFP
designator U?
Octal Channel 12-Bit, 100 MSPS High-SNR and Low-Power ADC, -40 to 85 degC, 80-pin QFP (PFP80), Green (RoHS & no Sb/Br); Manufacturer: Texas Instruments; PartNumber: ADS5295PFP; # Input Channels: 8; Analog Voltage AV/DD(Max)(V): 1.9; Analog Voltage AV/DD(Min)(V): 1.7; Architecture: Pipeline; ENOB(Bits): 11.4; INL(Max)(+/-LSB): 1.1; Interface: Serial LVDS; Resolution(Bits): 12; Sample Rate(max)(SPS): 100M; SFDR(dB): 86; SINAD(dB): 70.4; SNR(dB): 70.6; SubFamily: High Speed ADC (>10MSPS); DatasheetVersion: SBAS595; PackageVersion: 4146925/C, 07/2011; PackageReference: PFP80-6825X6825TP; PackageDescription: 80-Pin PowerPAD(TM) Plastic Quad Flatpack, Body 12 x 12 mm, Pitch 0.5 mm; Supplier 1: Digi-Key; Supplier Part Number 1: THS10064CDAR-ND; Supplier 2: Mouser; Supplier Part Number 2: 595-THS10064CDAR; Digital Supply(Max)(V): 1.9; Digital Supply(Min)(V): 1.7; Eco-Plan: Green (RoHS & no Sb/Br); Mounting Technology: Surface Mount; Code_JEDEC: MS-026; ComponentLink1Description: Manufacturer URL; ComponentLink1URL: http://www.ti.com/; ComponentLink2Description: Datasheet; ComponentLink2URL: http://www.ti.com/lit/ds/symlink/ads5295.pdf; ComponentLink3Description: Package Specification; ComponentLink3URL: http://www.ti.com/litv/pdf/mpqf049b
footprint TI-PFP80-6825X6825TP_N (QFP, 80-Leads, Body 12x12mm, Pitch 0.5mm, Thermal Pad 7.5x7.5mm, IPC Medium Density)
footprint TI-PFP80-6825X6825TP_L (QFP, 80-Leads, Body 12x12mm, Pitch 0.5mm, Thermal Pad 7.5x7.5mm, IPC High Density)
footprint TI-PFP80-6825X6825TP_M (QFP, 80-Leads, Body 12x12mm, Pitch 0.5mm, Thermal Pad 7.5x7.5mm, IPC Low Density)
part A pins: 1 IN2P (in) "Differential analog input for channel 2, positive", 2 IN2N (in) "Differential analog input for channel 2, negative", 4 IN3P (in) "Differential analog input for channel 3, positive", 5 IN3N (in) "Differential analog input for channel 3, negative", 7 IN4P (in) "Differential analog input for channel 4, positive", 8 IN4N (in) "Differential analog input for channel 4, negative", 13 OUT1A_P (out) "Channel 1 differential LVDS positive data output, one-wire", 14 OUT1A_N (out) "Channel 1 differential LVDS negative data output, one-wire", 15 OUT1B_P (out) "Channel 1 differential LVDS positive data output, two-wire", 16 OUT1B_N (out) "Channel 1 differential LVDS negative data output, two-wire", 17 OUT2A_P (out) "Channel 2 differential LVDS positive data output, one-wire", 18 OUT2A_N (out) "Channel 2 differential LVDS negative data output, one-wire", 19 OUT2B_P (out) "Channel 2 differential LVDS positive data output, two-wire", 20 OUT2B_N (out) "Channel 2 differential LVDS negative data output, two-wire", 21 OUT3A_P (out) "Channel 3 differential LVDS positive data output, one-wire", 22 OUT3A_N (out) "Channel 3 differential LVDS negative data output, one-wire", 23 OUT3B_P (out) "Channel 3 differential LVDS positive data output, two-wire", 24 OUT3B_N (out) "Channel 3 differential LVDS negative data output, two-wire", 25 OUT4A_P (out) "Channel 4 differential LVDS positive data output, one-wire", 26 OUT4A_N (out) "Channel 4 differential LVDS negative data output, one-wire", 27 OUT4B_P (out) "Channel 4 differential LVDS positive data output, two-wire", 28 OUT4B_N (out) "Channel 4 differential LVDS negative data output, two-wire", 33 OUT5B_P (out) "Channel 5 differential LVDS positive data output, two-wire", 34 OUT5B_N (out) "Channel 5 differential LVDS negative data output, two-wire", 35 OUT5A_P (out) "Channel 5 differential LVDS positive data output, one-wire", 36 OUT5A_N (out) "Channel 5 differential LVDS negative data output, one-wire", 37 OUT6B_P (out) "Channel 6 differential LVDS positive data output, two-wire", 38 OUT6B_N (out) "Channel 6 differential LVDS negative data output, two-wire", 39 OUT6A_P (out) "Channel 6 differential LVDS positive data output, one-wire", 40 OUT6A_N (out) "Channel 6 differential LVDS negative data output, one-wire", 41 OUT7B_P (out) "Channel 7 differential LVDS positive data output, two-wire", 42 OUT7B_N (out) "Channel 7 differential LVDS negative data output, two-wire", 43 OUT7A_P (out) "Channel 7 differential LVDS positive data output, one-wire", 44 OUT7A_N (out) "Channel 7 differential LVDS negative data output, one-wire", 45 OUT8B_P (out) "Channel 8 differential LVDS positive data output, two-wire", 46 OUT8B_N (out) "Channel 8 differential LVDS negative data output, two-wire", 47 OUT8A_P (out) "Channel 8 differential LVDS positive data output, one-wire", 48 OUT8A_N (out) "Channel 8 differential LVDS negative data output, one-wire", 53 IN5P (in) "Differential analog input for channel 5, positive", 54 IN5N (in) "Differential analog input for channel 5, negative", 56 IN6P (in) "Differential analog input for channel 6, positive", 57 IN6N (in) "Differential analog input for channel 6, negative", 59 IN7P (in) "Differential analog input for channel 7, positive", 60 IN7N (in) "Differential analog input for channel 7, negative", 62 IN8P (in) "Differential analog input for channel 8, positive", 63 IN8N (in) "Differential analog input for channel 8, negative", 78 IN1P (in) "Differential analog input for channel 1, positive", 79 IN1N (in) "Differential analog input for channel 1, negative"
part B pins: 10 PD (in) "Power-down control input pin", 29 ADCLKP (out) "Differential LVDS frame clock (1x), positive", 30 ADCLKN (out) "Differential LVDS frame clock (1x), negative", 31 LCLKP (out) "LVDS differential bit clock output pins (6x), positive", 32 LCLKN (out) "LVDS differential bit clock output pins (6x), negative", 51 RESET (in) "Active high RESET input", 64 SDOUT (hiz) "Serial data output", 65 SYNC (in) "Synchronization input for reduced output data rate", 67 NC "Do not connect", 68 VCM (out) "Common-mode output pin, 0.95-V output", 69 REFB (in) "Negative reference input/output", 70 REFT (in) "Positive reference input/output", 72 CLKP (in) "Differential clock input, positive", 73 CLKN (in) "Differential clock input, negative For a single-ended clock, tie CLKN to 0 V", 75 ~{CS} (in) "Serial enable chip select; active low digital input", 76 SDATA (in) "Serial data input", 77 SCLK (in) "Serial clock input"
part C pins: 3 AGND (power) "Analog ground pin", 6 AGND (power) "Analog ground pin", 9 AVDD (power) "Analog supply pin, 1.8 V", 11 LVDD (power) "Digital and I/O power supply, 1.8 V", 12 LGND (power) "Digital ground pin", 49 LVDD (power) "Digital and I/O power supply, 1.8 V", 50 LGND (power) "Digital ground pin", 52 AVDD (power) "Analog supply pin, 1.8 V", 55 AGND (power) "Analog ground pin", 58 AGND (power) "Analog ground pin", 61 AGND (power) "Analog ground pin", 66 AVDD (power) "Analog supply pin, 1.8 V", 71 AVDD (power) "Analog supply pin, 1.8 V", 74 AVDD (power) "Analog supply pin, 1.8 V", 80 AGND (power) "Analog ground pin", 81 EP (power) "In addition to providing a path for heat dissipation, the pad is also electrically connected to the digital ground internally. Therefore, the exposed pad must be soldered to the ground plane for best thermal and electrical (See Datasheet)"

## ADS5295PFPR
designator U?
Octal Channel 12-Bit, 100 MSPS High-SNR and Low-Power ADC, -40 to 85 degC, 80-pin QFP (PFP80), Green (RoHS & no Sb/Br); Manufacturer: Texas Instruments; PartNumber: ADS5295PFPR; # Input Channels: 8; Analog Voltage AV/DD(Max)(V): 1.9; Analog Voltage AV/DD(Min)(V): 1.7; Architecture: Pipeline; ENOB(Bits): 11.4; INL(Max)(+/-LSB): 1.1; Interface: Serial LVDS; Resolution(Bits): 12; Sample Rate(max)(SPS): 100M; SFDR(dB): 86; SINAD(dB): 70.4; SNR(dB): 70.6; SubFamily: High Speed ADC (>10MSPS); DatasheetVersion: SBAS595; PackageVersion: 4146925/C, 07/2011; PackageReference: PFP80-6825X6825TP; PackageDescription: 80-Pin PowerPAD(TM) Plastic Quad Flatpack, Body 12 x 12 mm, Pitch 0.5 mm; Supplier 1: Digi-Key; Supplier Part Number 1: THS10064CDARG4-ND; Supplier 2: Mouser; Supplier Part Number 2: 595-THS10064CDARG4; Digital Supply(Max)(V): 1.9; Digital Supply(Min)(V): 1.7; Eco-Plan: Green (RoHS & no Sb/Br); Mounting Technology: Surface Mount; Code_JEDEC: MS-026; ComponentLink1Description: Manufacturer URL; ComponentLink1URL: http://www.ti.com/; ComponentLink2Description: Datasheet; ComponentLink2URL: http://www.ti.com/lit/ds/symlink/ads5295.pdf; ComponentLink3Description: Package Specification; ComponentLink3URL: http://www.ti.com/litv/pdf/mpqf049b
footprint TI-PFP80-6825X6825TP_N (QFP, 80-Leads, Body 12x12mm, Pitch 0.5mm, Thermal Pad 7.5x7.5mm, IPC Medium Density)
footprint TI-PFP80-6825X6825TP_L (QFP, 80-Leads, Body 12x12mm, Pitch 0.5mm, Thermal Pad 7.5x7.5mm, IPC High Density)
footprint TI-PFP80-6825X6825TP_M (QFP, 80-Leads, Body 12x12mm, Pitch 0.5mm, Thermal Pad 7.5x7.5mm, IPC Low Density)
part A pins: 1 IN2P (in) "Differential analog input for channel 2, positive", 2 IN2N (in) "Differential analog input for channel 2, negative", 4 IN3P (in) "Differential analog input for channel 3, positive", 5 IN3N (in) "Differential analog input for channel 3, negative", 7 IN4P (in) "Differential analog input for channel 4, positive", 8 IN4N (in) "Differential analog input for channel 4, negative", 13 OUT1A_P (out) "Channel 1 differential LVDS positive data output, one-wire", 14 OUT1A_N (out) "Channel 1 differential LVDS negative data output, one-wire", 15 OUT1B_P (out) "Channel 1 differential LVDS positive data output, two-wire", 16 OUT1B_N (out) "Channel 1 differential LVDS negative data output, two-wire", 17 OUT2A_P (out) "Channel 2 differential LVDS positive data output, one-wire", 18 OUT2A_N (out) "Channel 2 differential LVDS negative data output, one-wire", 19 OUT2B_P (out) "Channel 2 differential LVDS positive data output, two-wire", 20 OUT2B_N (out) "Channel 2 differential LVDS negative data output, two-wire", 21 OUT3A_P (out) "Channel 3 differential LVDS positive data output, one-wire", 22 OUT3A_N (out) "Channel 3 differential LVDS negative data output, one-wire", 23 OUT3B_P (out) "Channel 3 differential LVDS positive data output, two-wire", 24 OUT3B_N (out) "Channel 3 differential LVDS negative data output, two-wire", 25 OUT4A_P (out) "Channel 4 differential LVDS positive data output, one-wire", 26 OUT4A_N (out) "Channel 4 differential LVDS negative data output, one-wire", 27 OUT4B_P (out) "Channel 4 differential LVDS positive data output, two-wire", 28 OUT4B_N (out) "Channel 4 differential LVDS negative data output, two-wire", 33 OUT5B_P (out) "Channel 5 differential LVDS positive data output, two-wire", 34 OUT5B_N (out) "Channel 5 differential LVDS negative data output, two-wire", 35 OUT5A_P (out) "Channel 5 differential LVDS positive data output, one-wire", 36 OUT5A_N (out) "Channel 5 differential LVDS negative data output, one-wire", 37 OUT6B_P (out) "Channel 6 differential LVDS positive data output, two-wire", 38 OUT6B_N (out) "Channel 6 differential LVDS negative data output, two-wire", 39 OUT6A_P (out) "Channel 6 differential LVDS positive data output, one-wire", 40 OUT6A_N (out) "Channel 6 differential LVDS negative data output, one-wire", 41 OUT7B_P (out) "Channel 7 differential LVDS positive data output, two-wire", 42 OUT7B_N (out) "Channel 7 differential LVDS negative data output, two-wire", 43 OUT7A_P (out) "Channel 7 differential LVDS positive data output, one-wire", 44 OUT7A_N (out) "Channel 7 differential LVDS negative data output, one-wire", 45 OUT8B_P (out) "Channel 8 differential LVDS positive data output, two-wire", 46 OUT8B_N (out) "Channel 8 differential LVDS negative data output, two-wire", 47 OUT8A_P (out) "Channel 8 differential LVDS positive data output, one-wire", 48 OUT8A_N (out) "Channel 8 differential LVDS negative data output, one-wire", 53 IN5P (in) "Differential analog input for channel 5, positive", 54 IN5N (in) "Differential analog input for channel 5, negative", 56 IN6P (in) "Differential analog input for channel 6, positive", 57 IN6N (in) "Differential analog input for channel 6, negative", 59 IN7P (in) "Differential analog input for channel 7, positive", 60 IN7N (in) "Differential analog input for channel 7, negative", 62 IN8P (in) "Differential analog input for channel 8, positive", 63 IN8N (in) "Differential analog input for channel 8, negative", 78 IN1P (in) "Differential analog input for channel 1, positive", 79 IN1N (in) "Differential analog input for channel 1, negative"
part B pins: 10 PD (in) "Power-down control input pin", 29 ADCLKP (out) "Differential LVDS frame clock (1x), positive", 30 ADCLKN (out) "Differential LVDS frame clock (1x), negative", 31 LCLKP (out) "LVDS differential bit clock output pins (6x), positive", 32 LCLKN (out) "LVDS differential bit clock output pins (6x), negative", 51 RESET (in) "Active high RESET input", 64 SDOUT (hiz) "Serial data output", 65 SYNC (in) "Synchronization input for reduced output data rate", 67 NC "Do not connect", 68 VCM (out) "Common-mode output pin, 0.95-V output", 69 REFB (in) "Negative reference input/output", 70 REFT (in) "Positive reference input/output", 72 CLKP (in) "Differential clock input, positive", 73 CLKN (in) "Differential clock input, negative For a single-ended clock, tie CLKN to 0 V", 75 ~{CS} (in) "Serial enable chip select; active low digital input", 76 SDATA (in) "Serial data input", 77 SCLK (in) "Serial clock input"
part C pins: 3 AGND (power) "Analog ground pin", 6 AGND (power) "Analog ground pin", 9 AVDD (power) "Analog supply pin, 1.8 V", 11 LVDD (power) "Digital and I/O power supply, 1.8 V", 12 LGND (power) "Digital ground pin", 49 LVDD (power) "Digital and I/O power supply, 1.8 V", 50 LGND (power) "Digital ground pin", 52 AVDD (power) "Analog supply pin, 1.8 V", 55 AGND (power) "Analog ground pin", 58 AGND (power) "Analog ground pin", 61 AGND (power) "Analog ground pin", 66 AVDD (power) "Analog supply pin, 1.8 V", 71 AVDD (power) "Analog supply pin, 1.8 V", 74 AVDD (power) "Analog supply pin, 1.8 V", 80 AGND (power) "Analog ground pin", 81 EP (power) "In addition to providing a path for heat dissipation, the pad is also electrically connected to the digital ground internally. Therefore, the exposed pad must be soldered to the ground plane for best thermal and electrical (See Datasheet)"